# EAGLE library part 74HC4066BQ,115 (library NXP_By_element14_Batch_1)
Quad bilateral switches
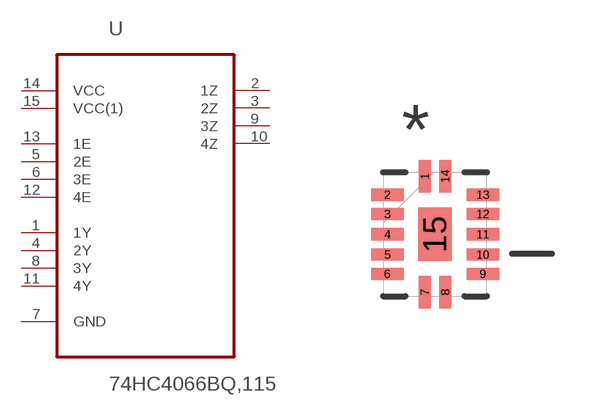
[diagram p120: symbol with the pads of QFN50PX250X300X100-15N; footprint QFN50PX250X300X100-15N]

Designator prefix U

## 74HC4066BQ,115 (MPN: 74HC4066BQ,115; OC_FARNELL: 1821172; OC_NEWARK: 71R2540; PACKAGE: DHVQFN-14; SUPPLIER: NXP)  [QFN50PX250X300X100-15N]
1  1Y
2  1Z
3  2Z
4  2Y
5  2E  in
6  3E  in
7  GND  pas
8  3Y
9  3Z
10  4Z
11  4Y
12  4E  in
13  1E  in
14  VCC  pwr
15  VCC(1)  pwr

## Footprint QFN50PX250X300X100-15N (pad centres in mm)
smd 0.305 x 0.813: 1 -0.254,1.448; 7 -0.254,-1.448; 8 0.254,-1.448; 14 0.254,1.448
smd 0.813 x 0.305: 2 -1.194,0.991; 3 -1.194,0.508; 4 -1.194,0; 5 -1.194,-0.508; 6 -1.194,-0.991; 9 1.194,-0.991; 10 1.194,-0.508; 11 1.194,0; 12 1.194,0.508; 13 1.194,0.991
smd 0.838 x 1.346: 15 0,0